# EAGLE library part SL-SW-2P-2T-S (library sw)
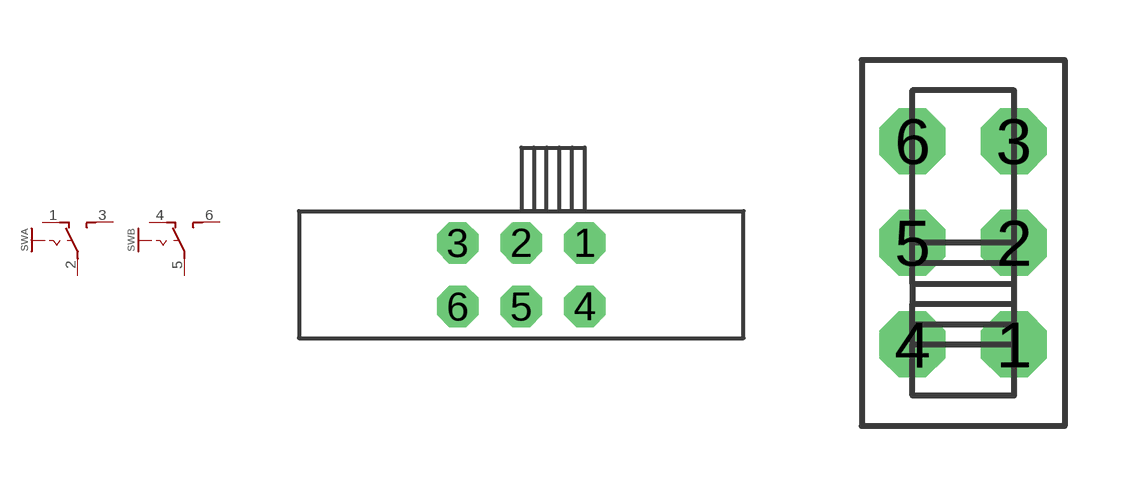
[diagram p2: symbol with the pads of SLSW-2P2T-H; footprints SLSW-2P2T-H, SLSW-2P2T]

Designator prefix SW; gates A=SW-1P2T B=SW-1P2T

## SL-SW-2P-2T-SH  [SLSW-2P2T-H]
1  A:O  pas
2  A:P  pas
3  A:S  pas
4  B:O  pas
5  B:P  pas
6  B:S  pas

## SL-SW-2P-2T-SV  [SLSW-2P2T]
Pads as for SLSW-2P2T-H

## Footprint SLSW-2P2T-H (pad centres in mm)
drill 1.1 pad 1.524 octagon: 1 2.54,1.27; 2 0,1.27; 3 -2.54,1.27; 4 2.54,-1.27; 5 0,-1.27; 6 -2.54,-1.27

## Footprint SLSW-2P2T (pad centres in mm)
drill 1.1 pad 1.524 octagon: 1 1.27,-2.54; 2 1.27,0; 3 1.27,2.54; 4 -1.27,-2.54; 5 -1.27,0; 6 -1.27,2.54